# EAGLE library part 692121430000 (library WR-USB)
WR-COM USB 3.0 Type A Vertical THT Kind Properties Durability:5 000 Mating cycles Quality Class:5 000 Mating cycles Connector Type:USB Gender:Receptacle Type:Vertical General Information Operating Temperature:-20up to +85 °C Compliance:RoHS Electrical Properties IR 1:1.8A Working Voltage:30V (AC) Withstanding Voltage:100V (AC) Contact Resistance:50 mΩ Material Properties Insulator Material:LCP Insulator Flammability Rating:UL94 V-0 Color:Blue Contact Material:Copper Alloy Contact Plating:Selective Gold Contact Type:Stamped Shielding Material:INOX Steel <https://www.we-online.com/catalog/media/o58971v209%20Family_WR-COM_USB_3.0_Vertical_692121430000.jpg> Details see: https://www.we-online.com/catalog/en/COM_3_0_THT_TYPE_A_VERTICAL/ Updated by Yingchun, Shan 2020-01-16 2020 (C) Würth Elektronik
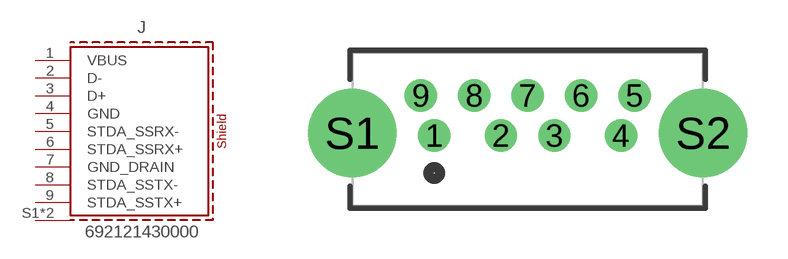
[diagram p32: symbol with the pads of 692121430000; footprint 692121430000]

Designator prefix J

## 692121430000 (APPLICATION: USB 3.0; DATASHEET-URL: https://www.we-online.com/redexpert/spec/692121430000?ae; GERDER: Receptacle; INTERFACE-TYPE: Type A; IR: 1.8A; MOUNT: THT; PACKAGING: Tray; PART-NUMBER: 692121430000; PINS: 9; TYPE: Vertical; VALUE: 692121430000; WORKING-VOLTAGE: 30V(AC))  [692121430000]
1  VBUS  pas
2  D-  pas
3  D+  pas
4  GND  pas
5  STDA_SSRX-  pas
6  STDA_SSRX+  pas
7  GND_DRAIN  pas
8  STDA_SSTX-  pas
9  STDA_SSTX+  pas
S1  SHIELD  pas
S2  SHIELD  pas

## Footprint 692121430000 (pad centres in mm)
WR-COM USB 3.0 Type A Vertical THT
drill 0.7: 1 -3.5,-0.24; 2 -1,-0.24; 3 1,-0.24; 4 3.5,-0.24; 5 4,1.26; 6 2,1.26; 7 0,1.26; 8 -2,1.26; 9 -4,1.26
drill 2.3: S1 -6.57,-0.14; S2 6.57,-0.14